# EAGLE library part BM08B-NSHSS-TBT (library NSH)
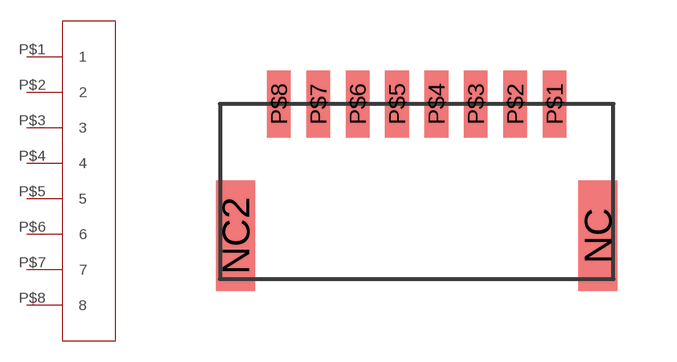
[diagram p2: symbol with the pads of BM08B-NSHSS-TBT; footprint BM08B-NSHSS-TBT]

Designator prefix -

## BM08B-NSHSS-TBT  [BM08B-NSHSS-TBT]
P$1  1
P$2  2
P$3  3
P$4  4
P$5  5
P$6  6
P$7  7
P$8  8

## Footprint BM08B-NSHSS-TBT (pad centres in mm)
smd 1 x 2.8: NC 4.6,1.4; NC2 -4.6,1.4
smd 0.6 x 1.7: P$1 3.5,4.75; P$2 2.5,4.75; P$3 1.5,4.75; P$4 0.5,4.75; P$5 -0.5,4.75; P$6 -1.5,4.75; P$7 -2.5,4.75; P$8 -3.5,4.75